# Altium schematic symbol library buffer-level-shifter.SchLib: 1 symbol
Pins are listed as number, name and electrical type; pins without a type are passive.

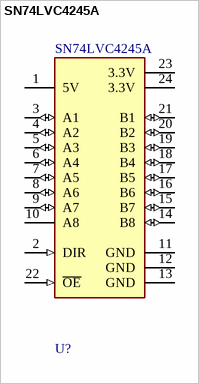
[diagram p0: symbol SN74LVC4245A]

## SN74LVC4245A
designator U?
SN74LVC4245A Octal Bus Transceiver and 3.3-V to 5-V Shifter With 3-State Outputs
footprint SN74LVC4245_24-SOIC_R-PDSO-G24 (24-SOIC)
pins: 1 5V (power), 2 DIR (in), 3 A1 (io), 4 A2 (io), 5 A3 (io), 6 A4 (io), 7 A5 (io), 8 A6 (io), 9 A7 (io), 10 A8 (power), 11 GND (power), 12 GND (power), 13 GND (power), 14 B8 (io), 15 B7 (io), 16 B6 (io), 17 B5 (io), 18 B4 (io), 19 B3 (io), 20 B2 (io), 21 B1 (io), 22 ~{OE} (in), 23 3.3V (power), 24 3.3V (power)